# EAGLE library part PCM5102A (library PCM v7)
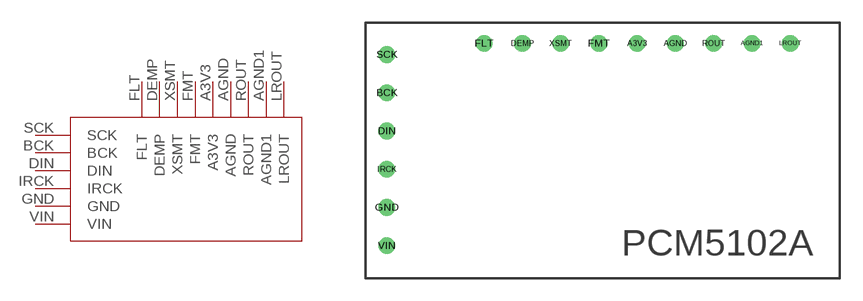
[diagram p1: symbol with the pads of DAC; footprint DAC]

Designator prefix PCM

## PCM5102A  [DAC]
A3V3  A3V3
AGND  AGND
AGND1  AGND1
BCK  BCK
DEMP  DEMP
DIN  DIN
FLT  FLT
FMT  FMT
GND  GND
IRCK  IRCK
LROUT  LROUT
ROUT  ROUT
SCK  SCK
VIN  VIN
XSMT  XSMT

## Footprint DAC (pad centres in mm)
drill 0.6: A3V3 2.54,7.12; AGND 5.08,7.12; AGND1 10.16,7.12; BCK -14.073,3.834; DEMP -5.08,7.12; DIN -14.073,1.294; FLT -7.62,7.12; FMT 0,7.12; GND -14.073,-3.786; IRCK -14.073,-1.246; LROUT 12.7,7.12; ROUT 7.62,7.12; SCK -14.073,6.374; VIN -14.073,-6.326; XSMT -2.54,7.12